# Altium schematic symbol library AC_POLE_SL.SchLib: 1 symbol
Pins are listed as number, name and electrical type; pins without a type are passive.

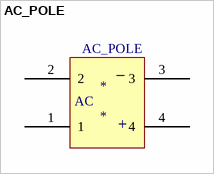
[diagram p0: symbol AC_POLE]

## AC_POLE
designator *
footprint AC_P
pins: 1, 2, 3, 4
text: _; AC; +